# Altium footprint library PcbLib1.PcbLib: 16 footprints
Each footprint in its own frame and in the unit in brackets; x right, y up, seen from the top. Pads: shape width x height; smd on the part's side, far side on the other; paste and mask are expansions set on the pad; w line width, h text height; cw(c..) or ccw(c..) is an arc to the next point about the centre after c.
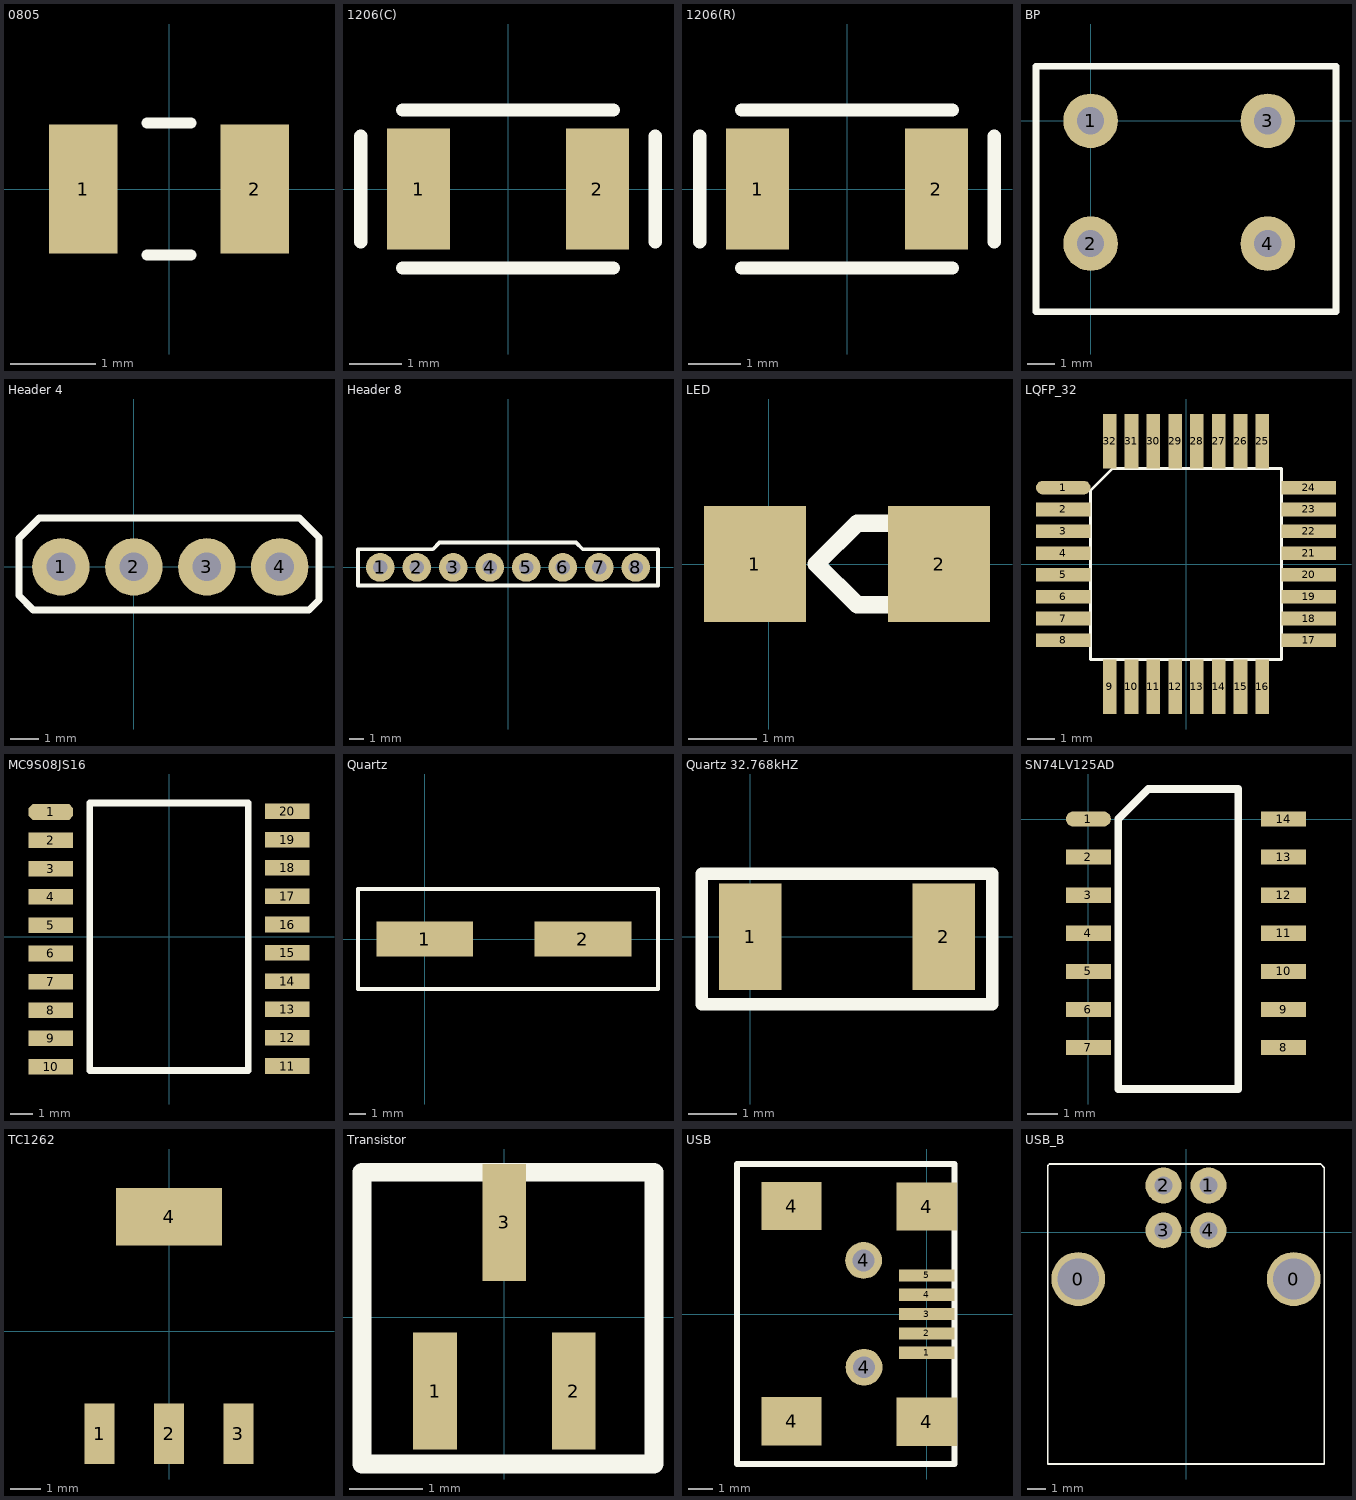
[diagram p0: the footprints below, top view; thin cyan lines are the x and y axes]

## 0805 [mm]
pads (2):
  rect 0.8x1.5 smd: 1(-1,0) 2(1,0)
Top Overlay:
  lines w0.127: -0.257,-0.771 0.257,-0.771 ; -0.257,0.771 0.257,0.771
3D body "0805_RES.stp": height 0.61, standoff 0, extent -0.974,-0.617 1.026,0.633

## 1206(C) [mm]
pads (2):
  rect 1.2x2.3 smd: 1(-1.7,0) 2(1.7,0)
Top Overlay:
  lines w0.254: -2.8,-1 -2.8,1 ; -2,-1.5 2,-1.5 ; -2,1.5 2,1.5 ; 2.8,-1 2.8,1
3D body "_1206 SMD Resistor.step": height 1, standoff 0, extent -1.6,-0.8 1.6,0.8

## 1206(R) [mm]
pads (2):
  rect 1.2x2.3 smd: 1(-1.7,0) 2(1.7,0)
Top Overlay:
  lines w0.254: -2.8,-1 -2.8,1 ; -2,-1.5 2,-1.5 ; -2,1.5 2,1.5 ; 2.8,-1 2.8,1
3D body "_1206 SMD Resistor.step": height 1, standoff 0, extent -1.6,-0.8 1.6,0.8

## BP [mm]
pads (4):
  round 2 hole 1: 1(0,0) 2(0,-4.5) 3(6.5,0) 4(6.5,-4.5)
Top Overlay:
  lines w0.254: -2,-7 -2,2 9,2 9,-7 -2,-7

## Header 4 [mm]
pads (4):
  round 2 hole 1: 1(-2.54,0) 2(0,0) 3(2.54,0) 4(5.08,0)
Top Overlay:
  lines w0.254: -4,-1 -3.5,-1.5 6.1,-1.5 6.448,-1.152 6.448,1.022 5.77,1.7 -3.3,1.7 -4,1 -4,-1

## Header 8 [mm]
pads (8):
  round 2 hole 1: 1(-8.89,0) 2(-6.35,0) 3(-3.81,0) 4(-1.27,0) 5(1.27,0) 6(3.81,0) 7(6.35,0) 8(8.89,0)
Top Overlay:
  lines w0.254: 10.41,1.27 5.198,1.27 4.738,1.73 -4.768,1.73 -5.228,1.27 -10.44,1.27 -10.44,-1.26 10.44,-1.26 10.44,1.26

## LED [mm]
pads (2):
  rect 1.5x1.7 smd: 1(-0.2,0) 2(2.5,0)
Top Overlay:
  lines w0.254: 1.9,-0.6 1.3,-0.6 0.7,0 1.3,0.6 1.9,0.6

## LQFP_32 [mm]
pads (32):
  oval 2x0.5 smd: 1(-4.5,2.8)
  rect 2x0.5 smd: 2(-4.5,2) 3(-4.5,1.2) 4(-4.5,0.4) 5(-4.5,-0.4) 6(-4.5,-1.2) 7(-4.5,-2) 8(-4.5,-2.8) 17(4.5,-2.8) 18(4.5,-2) 19(4.5,-1.2) 20(4.5,-0.4) 21(4.5,0.4) 22(4.5,1.2) 23(4.5,2) 24(4.5,2.8)
  rect 0.5x2 smd: 9(-2.8,-4.5) 10(-2,-4.5) 11(-1.2,-4.5) 12(-0.4,-4.5) 13(0.4,-4.5) 14(1.2,-4.5) 15(2,-4.5) 16(2.8,-4.5) 25(2.8,4.5) 26(2,4.5) 27(1.2,4.5) 28(0.4,4.5) 29(-0.4,4.5) 30(-1.2,4.5) 31(-2,4.5) 32(-2.8,4.5)
Top Overlay:
  lines w0.1: -3.5,-3.5 -3.5,2.7 -2.7,3.5 3.5,3.5 3.5,-3.5 -3.5,-3.5
3D body "User Library-LQFP32-2.STEP": height 1.62, standoff -0.01, extent -4.572,-4.572 4.572,4.572

## MC9S08JS16 [mm]
pads (20):
  oct 2x0.7 smd: 1(-5.3,5.6)
  rect 2x0.7 smd: 2(-5.3,4.33) 3(-5.3,3.06) 4(-5.3,1.79) 5(-5.3,0.52) 6(-5.3,-0.75) 7(-5.3,-2.02) 8(-5.3,-3.29) 9(-5.3,-4.56) 10(-5.3,-5.83) 11(5.3,-5.8) 12(5.3,-4.53) 13(5.3,-3.26) 14(5.3,-1.99) 15(5.3,-0.72) 16(5.3,0.55) 17(5.3,1.82) 18(5.3,3.09) 19(5.3,4.36) 20(5.3,5.63)
Top Overlay:
  lines w0.3: -3.556,-6 3.556,-6 3.556,6 -3.556,6 -3.556,-6
3D body "SOIC20_JEDEC_MS-013AC.step": height 2.66, standoff 0, extent -5.315,-6.6 5.315,6.4

## Quartz [mm]
pads (2):
  rect 5.8x2.1 smd: 1(0,0) 2(9.5,0)
Top Overlay:
  lines w0.254: -4,-3 14,-3 14,3 -4,3 -4,-3

## Quartz 32.768kHZ [mm]
pads (2):
  rect 1.3x2.2 smd: 1(0,0) 2(4,0)
Top Overlay:
  lines w0.254: -1,-1.4 5,-1.4 5,1.3 -1,1.3 -1,-1.3 -1,-1.4

## SN74LV125AD [mm]
pads (14):
  oval 1.5x0.51 smd: 1(0,0)
  rect 1.5x0.51 smd: 2(0,-1.27) 3(0,-2.54) 4(0,-3.81) 5(0,-5.08) 6(0,-6.35) 7(0,-7.62) 8(6.51,-7.62) 9(6.51,-6.35) 10(6.51,-5.08) 11(6.51,-3.81) 12(6.51,-2.54) 13(6.51,-1.27) 14(6.51,0)
Top Overlay:
  lines w0.254: 1,-9 5,-9 5,1 2,1 1,0 1,-9

## TC1262 [mm] "Regulator 3.3"
pads (4):
  rect 1x2 smd: 1(-2.3,-3.4) 2(0,-3.4) 3(2.3,-3.4)
  rect 3.5x1.9 smd: 4(0,3.8)
3D body "CircuitWorks-SOT-223.step": height 1.9, standoff 0.22, extent -3.25,-3.48 3.25,3.48

## Transistor [mm]
pads (3):
  rect 0.6x1.6 smd: 1(-0.95,-1.01) 2(0.95,-1.01) 3(0,1.3)
Top Overlay:
  lines w0.254: -1.95,-2.01 2.05,-2.01 2.05,1.99 -1.95,1.99 -1.95,-2.01
3D body "User Library-SOT-23-4.STEP": height 1.02, standoff -0.05, extent -1.475,-1 1.475,1.383

## USB [mm]
pads (11):
  rect 2.3x0.5 smd: 1(0,-1.6) 2(0,-0.8) 3(0,0) 4(0,0.8) 5(0,1.6)
  rect 2.5x2 smd: 4(-5.6,-4.44) 4(-5.6,4.47) 4(0,-4.45) 4(0,4.45)
  round 1.524 hole 0.9: 4(-2.62,2.22) 4(-2.6,-2.2)
Top Overlay:
  lines w0.254: -7.86,6.21 -7.855,6.205 1.15,6.205 1.15,-6.205 -7.85,-6.205 -7.85,6.21
3D body "usb_a-usb_b-m5-smd-c.SLDPRT": height 4.03, standoff -0.9, extent -8.53,-4.85 0.72,5.05

## USB_B [mm]
pads (6):
  round 3 hole 2.3: 0(-6,-2.605) 0(6,-2.605)
  round 2 hole 1: 1(1.25,2.605) 2(-1.25,2.605) 3(-1.25,0.105) 4(1.25,0.105)
Top Overlay:
  lines w0.1: -7.7,-12.9 7.7,-12.9 7.7,3.6 7.5,3.8 -7.6,3.8 -7.7,3.7 -7.7,-12.9
3D body "User Library-Samtec - USB-B-S-X-W-TH.STEP": height 11, standoff -3.64, extent -7.4,-12.8 7.398,3.7